# Altium footprint library 16-NSOIC.PcbLib: 1 footprints
Each footprint in its own frame and in the unit in brackets; x right, y up, seen from the top. Pads: shape width x height; smd on the part's side, far side on the other; paste and mask are expansions set on the pad; w line width, h text height; cw(c..) or ccw(c..) is an arc to the next point about the centre after c.
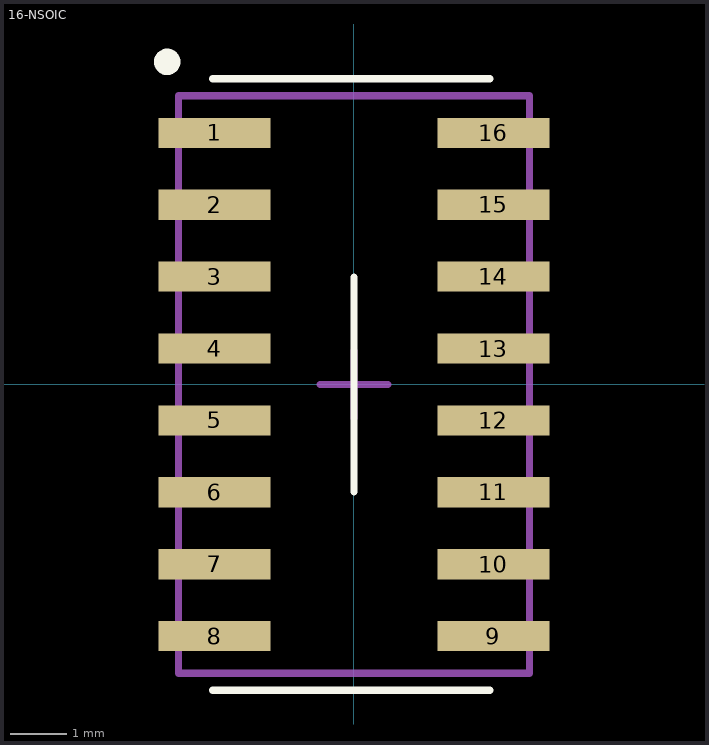
[diagram p0: the footprint, top view; thin cyan lines are the x and y axes]

## 16-NSOIC [mil]
pads (16):
  rect 77.99x20.98 smd mask+3.94: 1(-97.01,175) 2(-97.01,125) 3(-97.01,75) 4(-97.01,25) 5(-97.01,-25) 6(-97.01,-75) 7(-97.01,-125) 8(-97.01,-175) 9(97.01,-175) 10(97.01,-125) 11(97.01,-75) 12(97.01,-25) 13(97.01,25) 14(97.01,75) 15(97.01,125) 16(97.01,175)
Top Overlay:
  circle w10: c-129.92,224.41 r4.18
  lines w5: -98.43,-212.6 94.49,-212.6 ; -98.43,212.6 94.49,212.6 ; 0,-74.8 0,0 0,74.8
Top Designator:
  text ".Designator" at -299.9,-10.75 h60
Mechanical 13:
  lines w5: -122.05,-200.79 -122.05,200.79 122.05,200.79 122.05,-200.79 -122.05,-200.79
Mechanical 15:
  lines w5: -23.62,0 0,0 ; 0,-23.62 0,0 ; 0,23.62 0,0 ; 23.62,0 0,0
3D body "SOIC16 narrow.stp": height 78.74, standoff 0.13, extent -121.32,-198.43 121.32,198.43